# Altium schematic symbol library TS-102-G-A-1.SchLib: 1 symbol
Pins are listed as number, name and electrical type; pins without a type are passive.

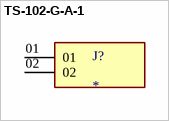
[diagram p0: symbol TS-102-G-A-1]

## TS-102-G-A-1
designator J?
MF: {'manufacturer': u'Samtec Inc.'}; MP: TS-102-G-A-1; Package: None; Price: None; Value: *; Availability: Unavailable
footprint SAMTEC_TS-102-G-A-1
pins: 01, 02